# EAGLE library part RABBIT_RCM57XX_67XX (library QuantumOptics)
Rabbit RCM57xx or RCM67xx modules
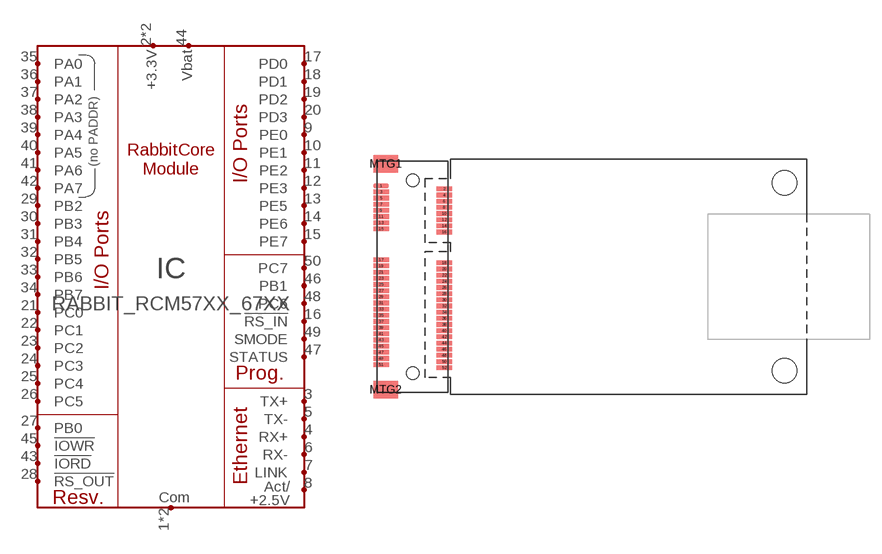
[diagram p181: symbol with the pads of RABBIT_RCM67XX_57XX(SMT); footprint RABBIT_RCM67XX_57XX(SMT)]

Designator prefix IC

## RABBIT_RCM57XX_67XX  [RABBIT_RCM67XX_57XX(SMT)]
1  COM
2  +3.3V
3  TX+  out
4  RX+  out
5  TX-  out
6  RX-  out
7  LINK  out
8  +2.5V/ACT
9  PE0
10  PE1
11  PE2
12  PE3
13  PE5
14  PE6
15  PE7
16  !RS_IN  in
17  PD0
18  PD1
19  PD2
20  PD3
21  PC0
22  PC1
23  PC2
24  PC3
25  PC4
26  PC5
27  PB0
28  !RS_OUT  out
29  PB2
30  PB3
31  PB4
32  PB5
33  PB6
34  PB7
35  PA0
36  PA1
37  PA2
38  PA3
39  PA4
40  PA5
41  PA6
42  PA7
43  !IORD  in
44  VBAT
45  !IOWR  out
46  PB1  out
47  STATUS  out
48  PC6
49  SMODE  in
50  PC7
51  COM
52  +3.3V

## Footprint RABBIT_RCM67XX_57XX(SMT) (pad centres in mm)
Rabbit RCM67xx or RCM57xx module, SMT mini-PCIe connector, such as Molex 0679101002
smd 2 x 0.6: 1 -2.6,24.3; 2 5.6,23.9; 3 -2.6,23.5; 4 5.6,23.1; 5 -2.6,22.7; 6 5.6,22.3; 7 -2.6,21.9; 8 5.6,21.5; 9 -2.6,21.1; 10 5.6,20.7; 11 -2.6,20.3; 12 5.6,19.9; 13 -2.6,19.5; 14 5.6,19.1; 15 -2.6,18.7; 16 5.6,18.3; 17 -2.6,14.7; 18 5.6,14.3; 19 -2.6,13.9; 20 5.6,13.5; 21 -2.6,13.1; 22 5.6,12.7; 23 -2.6,12.3; 24 5.6,11.9; 25 -2.6,11.5; 26 5.6,11.1; 27 -2.6,10.7; 28 5.6,10.3; 29 -2.6,9.9; 30 5.6,9.5; 31 -2.6,9.1; 32 5.6,8.7; 33 -2.6,8.3; 34 5.6,7.9; 35 -2.6,7.5; 36 5.6,7.1; 37 -2.6,6.7; 38 5.6,6.3; 39 -2.6,5.9; 40 5.6,5.5; 41 -2.6,5.1; 42 5.6,4.7; 43 -2.6,4.3; 44 5.6,3.9; 45 -2.6,3.5; 46 5.6,3.1; 47 -2.6,2.7; 48 5.6,2.3; 49 -2.6,1.9; 50 5.6,1.5; 51 -2.6,1.1; 52 5.6,0.7
smd 3.2 x 2.3: MTG1 -2,27.15; MTG2 -2,-2.15
hole 1.6 at 1.5,25
hole 1.6 at 1.5,0
hole 3.175 at 49.7,0.33
hole 3.175 at 49.7,24.663